# Altium footprint library passive.PcbLib: 6 footprints
Each footprint in its own frame and in the unit in brackets; x right, y up, seen from the top. Pads: shape width x height; smd on the part's side, far side on the other; paste and mask are expansions set on the pad; w line width, h text height; cw(c..) or ccw(c..) is an arc to the next point about the centre after c.
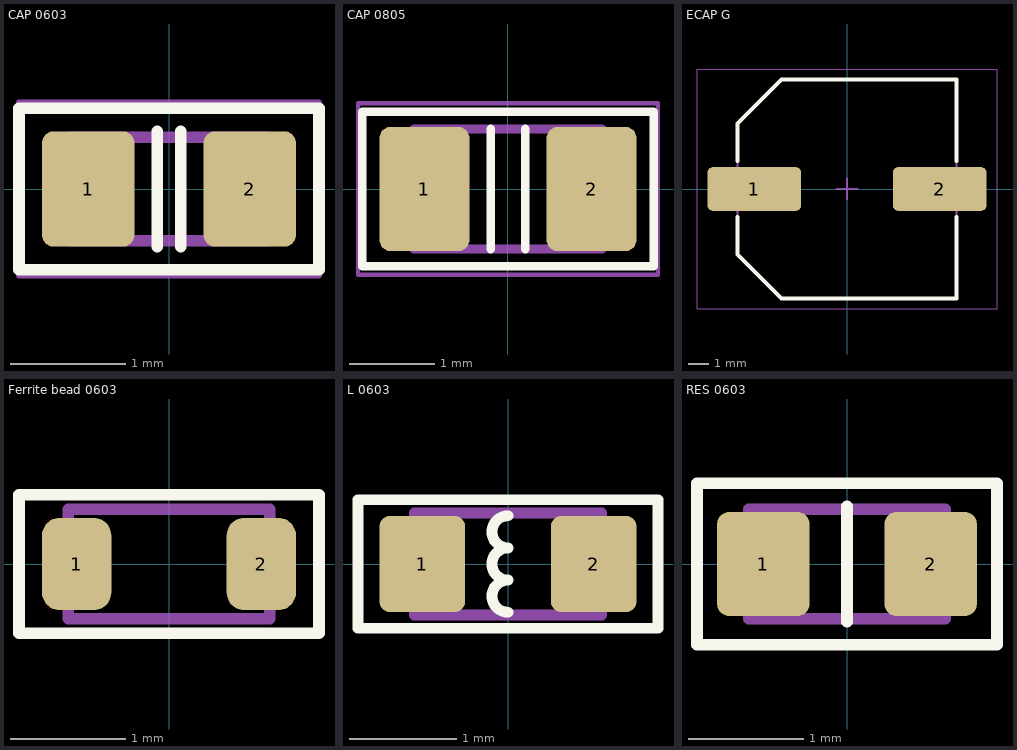
[diagram p0: the footprints below, top view; thin cyan lines are the x and y axes]

## CAP 0603 [mm] "Chip Capacitor, 2-Leads, Body 1.60x0.80mm, IPC Medium Density"
height 0.95
pads (2):
  rrect25% 0.8x1 smd: 1(-0.7,0) 2(0.7,0)
Top Overlay:
  lines w0.1: -0.1,-0.5 -0.1,0.5 ; 0.1,-0.5 0.1,0.5 ; -1.3,-0.7 -1.3,0.7 1.3,0.7 1.3,-0.7 -1.3,-0.7
Mechanical 13:
  lines w0.1: -0.85,-0.45 -0.85,0.45 0.85,0.45 0.85,-0.45 -0.85,-0.45
Mechanical 15:
  lines w0.05: -1.3,-0.75 -1.3,0.75 1.3,0.75 1.3,-0.75 -1.3,-0.75
3D body "CAP 0603.step": height 0.95, standoff 0, extent -0.85,-0.45 0.85,0.45

## CAP 0805 [mm] "Chip Capacitor, 2-Leads, Body 2.05x1.25mm, IPC Medium Density"
height 0.5
pads (2):
  rrect25% 1.05x1.45 smd: 1(-0.975,0) 2(0.975,0)
Top Overlay:
  lines w0.1: -0.2,-0.7 -0.2,0.7 ; 0.2,-0.7 0.2,0.7 ; -1.7,-0.9 1.7,-0.9 1.7,0.9 -1.7,0.9 -1.7,-0.9
Mechanical 13:
  lines w0.1: -1.1,-0.7 -1.1,0.7 1.1,0.7 1.1,-0.7 -1.1,-0.7
Mechanical 15:
  lines w0.05: -1.75,-1 -1.75,1 1.75,1 1.75,-1 -1.75,-1
3D body "CAP 0805.step": height 0.5, standoff 0, extent -1.1,-0.7 1.1,0.7

## ECAP G [mm] "Aluminum Electrolytic Capacitor, Body 10.30x10.30x10.00mm, IPC Medium Density"
height 10
pads (2):
  rrect25% 4.5x2.1 smd: 1(-4.45,0) 2(4.45,0)
Top Overlay:
  lines w0.2: -5.25,-1.35 -5.25,-3.15 -3.15,-5.25 5.25,-5.25 5.25,-1.35 ; -5.25,1.35 -5.25,3.15 -3.15,5.25 5.25,5.25 5.25,1.35
Mechanical 13:
  lines w0.1: -5.25,-3.15 -5.25,3.15 -3.15,5.25 5.25,5.25 5.25,-5.25 -3.15,-5.25 -5.25,-3.15
Mechanical 15:
  lines w0.05: -7.2,-5.75 7.2,-5.75 7.2,5.75 -7.2,5.75 -7.2,-5.75
  lines w0.1: -0.5,0 0.5,0 ; 0,-0.5 0,0.5
3D body "ECAP G.step": height 10, standoff 0, extent -5.85,-5.25 5.85,5.25

## Ferrite bead 0603 [mm] "Chip Inductor, 2-Leads, Body 1.60x0.80mm, IPC Medium Density"
height 0.75
pads (2):
  rrect50% 0.6x0.8 smd: 1(-0.8,0) 2(0.8,0)
Top Overlay:
  lines w0.1: -1.3,-0.6 1.3,-0.6 1.3,0.6 -1.3,0.6 -1.3,-0.6
Mechanical 13:
  lines w0.1: -0.875,-0.475 0.875,-0.475 0.875,0.475 -0.875,0.475 -0.875,-0.475
Mechanical 15:
  lines w0.05: -1.3,-0.6 1.3,-0.6 1.3,0.6 -1.3,0.6 -1.3,-0.6
3D body "Ferrite bead 0603.step": height 0.75, standoff 0, extent -0.875,-0.475 0.875,0.475

## L 0603 [mm] "Chip Inductor, 2-Leads, Body 1.60x0.80mm, IPC Medium Density"
height 0.95
pads (2):
  rrect25% 0.8x0.9 smd: 1(-0.8,0) 2(0.8,0)
Top Overlay:
  lines w0.1: 0,-0.45 cw(c0,-0.3) 0,-0.15 cw(c0,0) 0,0.15 cw(c0,0.3) 0,0.45 ; -1.4,-0.6 1.4,-0.6 1.4,0.6 -1.4,0.6 -1.4,-0.6
Mechanical 13:
  lines w0.1: -0.875,-0.475 -0.875,0.475 0.875,0.475 0.875,-0.475 -0.875,-0.475
Mechanical 15:
  lines w0.05: -1.4,-0.6 -1.4,0.6 1.4,0.6 1.4,-0.6 -1.4,-0.6
3D body "L 0603.step": height 0.95, standoff 0, extent -0.875,-0.475 0.875,0.475

## RES 0603 [mm] "Chip Resistor, 2-Leads, Body 1.60x0.85mm, IPC Medium Density"
height 0.5
pads (2):
  rrect25% 0.8x0.9 smd: 1(-0.725,0) 2(0.725,0)
Top Overlay:
  lines w0.1: 0,-0.5 0,0.5 ; -1.3,-0.7 -1.3,0.7 1.3,0.7 1.3,-0.7 -1.3,-0.7
Mechanical 13:
  lines w0.1: -0.85,-0.475 -0.85,0.475 0.85,0.475 0.85,-0.475 -0.85,-0.475
Mechanical 15:
  lines w0.05: -1.3,-0.7 1.3,-0.7 1.3,0.7 -1.3,0.7 -1.3,-0.7
3D body "RES 0603.step": height 0.5, standoff 0, extent -0.85,-0.475 0.85,0.475